# Altium footprint library Vibration sensors.PcbLib: 1 footprints
Each footprint in its own frame and in the unit in brackets; x right, y up, seen from the top. Pads: shape width x height; smd on the part's side, far side on the other; paste and mask are expansions set on the pad; w line width, h text height; cw(c..) or ccw(c..) is an arc to the next point about the centre after c.
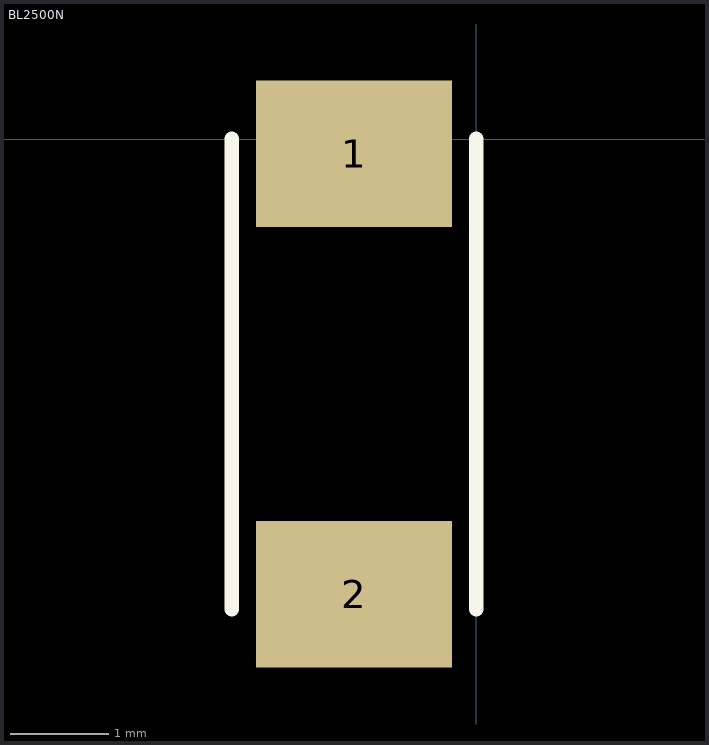
[diagram p0: the footprint, top view; thin cyan lines are the x and y axes]

## BL2500N [mm]
pads (2):
  rect 2x1.5 smd: 1(-1.25,-0.15) 2(-1.25,-4.65)
Top Overlay:
  lines w0.15: -2.5,-4.8 -2.5,0 ; 0,-4.8 0,0
3D body "BL2500N.stp": height 2.51, standoff 0.01, extent -2.52,-4.8 -0.02,0